# Altium schematic symbol library 2002_A_CapteurMeteoWifi.SchLib: 16 symbols
Pins are listed as number, name and electrical type; pins without a type are passive.

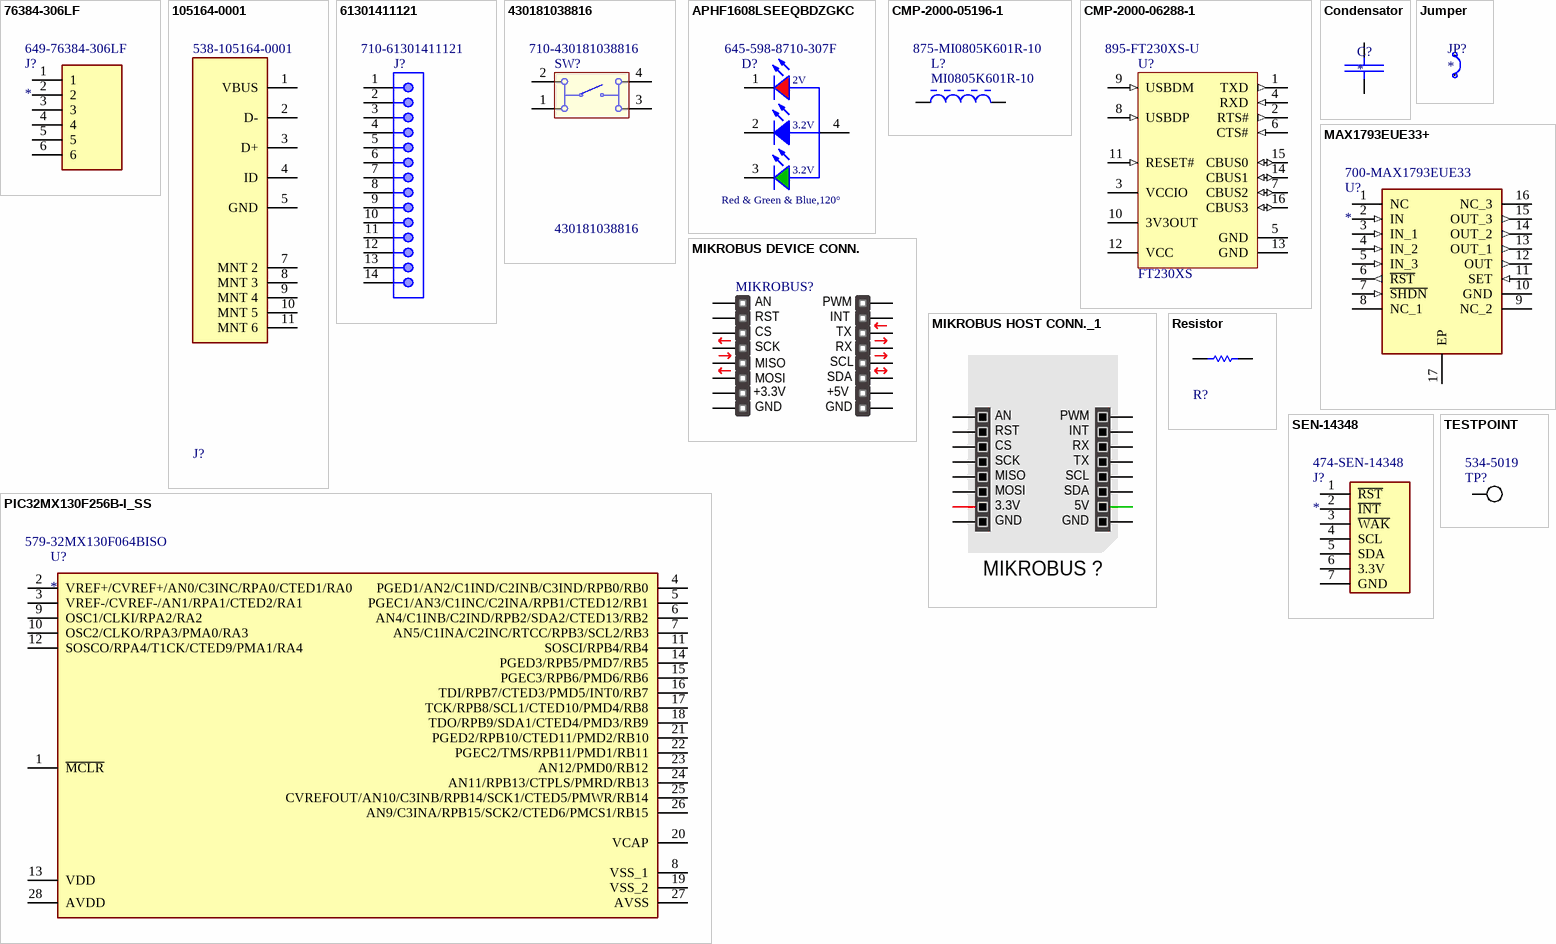
[diagram p0: symbols 76384-306LF to TESTPOINT]

## 76384-306LF
designator J?  Supplier Part Number 1: 649-76384-306LF
Connector; Manufacturer_Name: Amphenol; Manufacturer_Part_Number: 76384-306LF; Manufacturer 1: Amphenol FCI; Description: Conn Shrouded Header HDR 6 POS 2.54mm Solder ST Thru-Hole Bag; Number of Contacts: 6; Max Voltage Rating (AC): 1kV; Gender: Male; Current Rating: 3A; Insulation Resistance: 100GR; Connector Type: Male Pin; Pitch: 2.54mm; Contact Post Length: 3.4mm; Datasheet Link: https://www.mouser.co.uk/datasheet/2/18/76384-1363448.pdf; Height: 9.34mm; Supplier 1: Mouser; Manufacturer Part Number 1: 76384-306LF; Stock 1: 250; Pricing 1: 1=0.96000, 10=0.81700, 100=0.70600, 500=0.59600, 1000=0.52900, 2500=0.46300 (USD); RoHS: Yes; Mount: Through Hole; Contact Plating: Gold,GXT; Housing Material: Thermoplastic; Color: Black; Contact Material: Bronze,Copper Alloy,Copper,Nickel,Gold; Housing Color: Black; Min Operating Temperature: -40°C; Max Operating Temperature: 125°C; Termination: Solder; Number of Rows: 1; Number of Positions: 6; Package Quantity: 500; Fastening Type: Friction; Packaging: Bulk; Voltage Rating: 1kV; Orientation: Straight; Length: 14.24mm; Contact Mating Length: 0.197inch; Width: 4.7mm; Depth: 5mm; Radiation Hardening: No; Lead Free: Lead Free; REACH SVHC: No SVHC; ComponentLink1URL: https://datasheet.ciiva.com/11748/0900766b80afbf79-11748301.pdf?src-supplier=RSComponents; ComponentLink1Description: https://datasheet.ciiva.com/11748/0900766b80afbf79-11748301.pdf?src-supplier=RSComponents; ComponentLink2URL: https://datasheet.ciiva.com/16656/76384-16656614.pdf?src-supplier=Avnet+Europe; ComponentLink2Description: https://datasheet.ciiva.com/16656/76384-16656614.pdf?src-supplier=Avnet+Europe; ComponentLink3URL: https://datasheet.ciiva.com/14155/gd116700-116785-14155549.pdf?src-supplier=Distrelec; ComponentLink3Description: https://datasheet.ciiva.com/14155/gd116700-116785-14155549.pdf?src-supplier=Distrelec; ComponentLink4URL: https://datasheet.ciiva.com/711/76384-711232.pdf?src-supplier=Digi-Key; ComponentLink4Description: https://datasheet.ciiva.com/711/76384-711232.pdf?src-supplier=Digi-Key; ComponentLink5URL: https://datasheet.ciiva.com/9473/76384-9473237.pdf?src-supplier=Avnet; ComponentLink5Description: https://datasheet.ciiva.com/9473/76384-9473237.pdf?src-supplier=Avnet
footprint SHDR6W62P0X254_1X6_1424X460X934P
pins: 1, 2, 3, 4, 5, 6

## 105164-0001
designator J?  Supplier Part Number 1: 538-105164-0001  (hidden comment: *)
Connecteurs USB MICRO USB B RECEPT TOP MOUNT; Manufacturer 1: Molex; Manufacturer Part Number 1: 105164-0001; Description: MOLEX - 105164-0001 - USB Connector, Micro USB Type B, USB 2.0, Receptacle, 5 Ways, Surface Mount, Right Angle; Plating: Tin; Mating Cycles: 10000; Shielding: Shielded; Number of Circuits: 5; Current Rating: 1.8A; Gender: Receptacle; Voltage Rating (AC): 30V; USB Standard: USB 2.0; Number of Ports: 1; Pitch: 0.65mm; Supplier 1: Mouser; Stock 1: 4525; Pricing 1: 1=0.86000, 10=0.68500, 100=0.59600, 500=0.53600, 1300=0.42500, 2600=0.41300 (USD); RoHS: Yes; Mount: Surface Mount,Through Hole,Horizontal; Insulation Color: Black; Housing Material: Polymer; Contact Material: Copper Alloy; Contact Plating: Gold; Color: Black; Number of Terminals: 5; Min Operating Temperature: -35°C; Max Operating Temperature: 85°C; Connector Type: USB; Packaging: Tape and Reel; Package Quantity: 6500; Orientation: Right Angle; Number of Contacts: 5; Termination: Solder; Max Voltage Rating (AC): 30V; Length: 7.5mm; Depth: 5.15mm; Radiation Hardening: No; Halogen Free: Low Halogen; Flammability Rating: UL94 V-0; REACH SVHC: No SVHC; ComponentLink1URL: https://datasheet.ciiva.com/29660/1051640001-sd-29660108.pdf?src-supplier=Digi-Key; ComponentLink1Description: https://datasheet.ciiva.com/29660/1051640001-sd-29660108.pdf?src-supplier=Digi-Key; ComponentLink2URL: https://datasheet.ciiva.com/3899/211021051640001-io-nectors-3899697.pdf?src-supplier=Arrow+Electronics; ComponentLink2Description: https://datasheet.ciiva.com/3899/211021051640001-io-nectors-3899697.pdf?src-supplier=Arrow+Electronics
footprint Molex_105164-0001_0
pins: 1 VBUS, 2 D-, 3 D+, 4 ID, 5 GND, 7 MNT 2, 8 MNT 3, 9 MNT 4, 10 MNT 5, 11 MNT 6

## 61301411121
designator J?  Supplier Part Number 1: 710-61301411121
WR-PHD Pin Header, THT, pitch 2.54mm, Single Row, Vertical, 14pin; Part Number: 61301411121; Manufacturer 1: Wurth Electronics; Pin Number: 14; Gender: Male; Rated Current: 3A; Working Voltage: 250VAC; Withstanding Voltage: 500VAC; Contact Resistance: 20mOhm; Description: WURTH ELEKTRONIK - 61301411121 - Pin Header, Vertical, Board-to-Board, 2.54 mm, 1 Rows, 14 Contacts, Through Hole Straight; Connector Type: Male Pin; ComponentLink1Description: Manufacturer; ComponentLink1URL: http://www.we-online.de; ComponentLink2Description: Datasheet; ComponentLink2URL: https://katalog.we-online.de/em/datasheet/6130xx11121.pdf; Published Date: June 2019; Publisher: Wurth Elektronik; Pitch: 2.54mm; Operating Temperature: -40 to +105degC; Mounting Technology: THT; Packaging: Bag; Row Number: Single; Orientation: Vertical; Supplier 1: Mouser; Manufacturer Part Number 1: 61301411121; Stock 1: 984; Pricing 1: 1=0.74000, 10=0.62700, 25=0.52200, 50=0.43500, 100=0.39600, 250=0.39600 (USD); RoHS: Yes; Mount: Through Hole; Contact Plating: Gold; Contact Material: Copper; Color: Black; Number of Rows: 1; Number of Positions: 14; Termination: Solder; Number of Contacts: 14; Contact Mating Length: 0.236inch; REACH SVHC: Unknown; Lead Free: Lead Free; ComponentLink3URL: http://www.farnell.com/cad/1737268.pdf?src-supplier=Element14; ComponentLink3Description: http://www.farnell.com/cad/1737268.pdf?src-supplier=Element14; ComponentLink4URL: https://katalog.we-online.de/em/datasheet/6130xx11121.pdf?src-supplier=Digi-Key; ComponentLink4Description: https://katalog.we-online.de/em/datasheet/6130xx11121.pdf?src-supplier=Digi-Key
footprint 61301411121 (Pin Header, pitch 2.54 mm, THT, Vertical, single row, 14p)
pins: 1, 2, 3, 4, 5, 6, 7, 8, 9, 10, 11, 12, 13, 14

## 430181038816
designator SW?  Supplier Part Number 1: 710-430181038816
WS-TASV SMD Tact Switch 4.5X4.5 mm; Manufacturer: Wuerth Elektronik; Manufacturer 1: Wurth Electronics; NoPins: 04; Description: Switch Tactile Spst-no 0.05A 12V; Mechanical Life: 1000000Cycles; Actuator Material: Polymer,Liquid Crystal Polymer; Illumination Type: Non-Illuminated; Operating Force: 160gf; Throw Configuration: SPST; Switch Travel: 0.2mm; Switch Function: Off-Mom; Actuator Type: Standard; ComponentLink1Description: Manufacturer URL; ComponentLink2Description: Datasheet; ComponentLink1URL: http://www.we-online.com; PartNumber: 430181038816; PackageReference: 430181038816; ComponentLink2URL: http://katalog.we-online.de/em/datasheet/430181038816.pdf; Supplier 1: Mouser; Manufacturer Part Number 1: 430181038816; Stock 1: 3707; Pricing 1: 1=0.50000, 10=0.49400, 25=0.49400, 50=0.45800, 100=0.41600, 250=0.41600 (USD); RoHS: Yes; Mount: Surface Mount; Min Operating Temperature: -40°C; Max Operating Temperature: 85°C; Packaging: Tape and Reel; Termination: SMD/SMT; ComponentLink3URL: https://katalog.we-online.de/em/datasheet/430181038816.pdf?src-supplier=Digi-Key; ComponentLink3Description: https://katalog.we-online.de/em/datasheet/430181038816.pdf?src-supplier=Digi-Key
footprint 430181038816 (4.5*4.5mm vertical type, SMD, height 3.8mm, black actuator, 160gf, T&R)
pins: 1, 2, 3, 4

## APHF1608LSEEQBDZGKC
designator D?, comment Red & Green & Blue,120°  Supplier Part Number 1: 645-598-8710-307F
DEL standard - CMS RGB 0603 SMD; Part Number: 150066M153000; Manufacturer 1: Dialight; Manufacturer Part Number 1: 598-8710-307F; Forward Voltage: 3.3 V@Blue, 3.3 V@Green, 2 V@Red; Peak Wavelength: 468 nm@Blue, 520 nm@Green, 632 nm@Red; Dominant Wavelength: 470 nm@Blue, 525 nm@Green, 624 nm@Red; Luminous Intensity: 180 mcd@Blue, 900 mcd@Green, 285 mcd@Red; Description: LED;  0606 SMT , RED/GREEN/BLUE, ALINGAP/INGAN,  CLEAR LENS, 140 DEG VIEWING ANGLE; Color: Blue,Green,Red; Lens Color: Colorless,Clear; Reverse Voltage: 5V; Number of LEDs: 3; Lens Style: Flat,Diffused,Colorless,Rectangular,Clear; Element Configuration: Common Anode; Lens Transparency: Clear; Test Current: 20mA; Wavelength: 635nm; Lens Size: 0.9mm; ComponentLink1Description: Manufacturer; ComponentLink1URL: http://www.we-online.de; ComponentLink2Description: Datasheet; ComponentLink2URL: http://katalog.we-online.de/led/datasheet/150066M153000.pdf; Published Date: May 2018; Publisher: Wurth Elektronik; Size: 0606; Viewing Angle: 120°; Operating Temperature: -40 to 85 degC; Emitting Color: Red & Green & Blue; Mounting Technology: SMT; Supplier 1: Mouser; Stock 1: 12149; Pricing 1: 1=2.17000, 10=1.43000, 100=1.12000, 500=0.99200, 1000=0.99200, 4000=0.99200 (USD); RoHS: Yes; Mount: Surface Mount; Case/Package: 0606; Number of Pins: 4; Case Code (Imperial): 0606; Case Code (Metric): 1616; Min Operating Temperature: -40°C; Max Operating Temperature: 100°C; Packaging: Tape and Reel; Number of Elements: 3; Forward Current: 20mA; Package Quantity: 3000; Length: 1.6mm; Height: 0.7mm; Depth: 1.6mm; Width: 1.6mm; Radiation Hardening: No; REACH SVHC: No SVHC; Lead Free: Lead Free; ComponentLink3URL: https://datasheet.ciiva.com/2112/smt-selector-guide-2112585.pdf?src-supplier=Digi-Key; ComponentLink3Description: https://datasheet.ciiva.com/2112/smt-selector-guide-2112585.pdf?src-supplier=Digi-Key; ComponentLink4URL: https://datasheet.ciiva.com/2112/smt-selector-guide-2112587.pdf?src-supplier=Digi-Key; ComponentLink4Description: https://datasheet.ciiva.com/2112/smt-selector-guide-2112587.pdf?src-supplier=Digi-Key; ComponentLink5URL: https://datasheet.ciiva.com/30261/mdei5980606tri-a-w-30261836.pdf?src-supplier=Onlinecomponents.com; ComponentLink5Description: https://datasheet.ciiva.com/30261/mdei5980606tri-a-w-30261836.pdf?src-supplier=Onlinecomponents.com; ComponentLink6URL: https://datasheet.ciiva.com/15965/mdei5980606tri-a-w-15965790.pdf?src-supplier=Onlinecomponents.com; ComponentLink6Description: https://datasheet.ciiva.com/15965/mdei5980606tri-a-w-15965790.pdf?src-supplier=Onlinecomponents.com; ComponentLink7URL: https://datasheet.ciiva.com/16216/smt-selector-guide-16216713.pdf?src-supplier=Future+Electronics; ComponentLink7Description: https://datasheet.ciiva.com/16216/smt-selector-guide-16216713.pdf?src-supplier=Future+Electronics; ComponentLink8URL: https://datasheet.ciiva.com/2112/smt-selector-guide-2112586.pdf?src-supplier=Digi-Key; ComponentLink8Description: https://datasheet.ciiva.com/2112/smt-selector-guide-2112586.pdf?src-supplier=Digi-Key; ComponentLink9URL: https://datasheet.ciiva.com/4688/smt-selector-guide-267443-4688847.pdf?src-supplier=Mouser; ComponentLink9Description: https://datasheet.ciiva.com/4688/smt-selector-guide-267443-4688847.pdf?src-supplier=Mouser
footprint 150066M153000
pins: 1 K, 2 K, 3 K, 4 A
text: 2V; 3.2V

## CMP-2000-05196-1
designator L?, comment MI0805K601R-10  Supplier Part Number 1: 875-MI0805K601R-10
Chip Bead for Power Filtering, 1500 mA, 600 Ohm, -40 to 125 degC, 0805 (2012 Metric), RoHS, Tape and Reel; Manufacturer: Laird; Filter Type: PowerLine; Current Rating (Max): 1.5A; Catalog Drawings: (HI,HZ,LI,MI)0805Series_1.10mmMax.Height; Impedance @ Frequency: 600Ohm@100MHz; Number of Lines: 1; DC Resistance (DCR) (Max): 100mOhm; Other Names: 240-2390-1; Kits: 240-2227-ND-KITEMIFERRITEBEADCHIPSMD; Online Catalog: MISeries; Description: LAIRD - MI0805K601R-10 - Ferrite Bead, 0805 [2012 Metric], 600 ohm, 1.5 A, MI Series, 0.1 ohm; Core Material: Ferrite; DC Resistance (DCR): 100mR; Frequency: 100MHz; Impedance: 600R; Standard Package: 1; Datasheet Version: Rev. A, 01/2004; Height (Max): 0.043"(1.10mm); Category: Filters; Operating Temperature: -40degC~125degC; Package Description: 2-Pin Surface Mount Device, Body 2 x 1.25 mm; Package / Case: 0805(2012Metric); Package Reference: MI0805K601R-10-2; Packaging: CutTape(CT); Ratings: -; Mounting Type: SurfaceMount; Datasheet URL: https://datasheet.ciiva.com/3082/mi0805k601r-10-a-vp-3082219.pdf; Size / Dimension: 0.079"Lx0.049"W(2.00mmx1.25mm); Family: FerriteBeadsandChips; Manufacturer URL: https://www.lairdtech.com; Series: MI; Supplier: Digikey; Supplier Ref.: 240-2390-1-ND; Supplier min. qty: 1; Supplier unit price: 0.11; Supplier 1: Mouser; Manufacturer 1: Laird; Manufacturer Part Number 1: MI0805K601R-10; Stock 1: 59209; Pricing 1: 1=0.10000, 10=0.08300, 50=0.07700, 100=0.07400, 250=0.06200, 500=0.05800 (USD); RoHS: Yes; Mount: Surface Mount; Case/Package: 0805; Weight: 0.00392oz; Case Code (Metric): 2012; Case Code (Imperial): 0805; Contact Plating: Tin,Matte; Material: Ferrite; Min Operating Temperature: -40°C; Max Operating Temperature: 125°C; Package Quantity: 1; Max Current Rating: 1.5A; Max DC Current: 1.5A; Current Rating: 1.5A; Termination: SMD/SMT; Test Frequency: 100MHz; Length: 2mm; Height: 0.043inch; Width: 0.049inch; Depth: 1.45mm; Lead Free: Lead Free; REACH SVHC: Unknown; ComponentLink1URL: https://datasheet.ciiva.com/22650/1685918-22650417.pdf?src-supplier=Element14; ComponentLink1Description: https://datasheet.ciiva.com/22650/1685918-22650417.pdf?src-supplier=Element14; ComponentLink2URL: https://datasheet.ciiva.com/1013/mi0805k601r-10-b-1013299.pdf?src-supplier=Digi-Key; ComponentLink2Description: https://datasheet.ciiva.com/1013/mi0805k601r-10-b-1013299.pdf?src-supplier=Digi-Key; ComponentLink3URL: https://datasheet.ciiva.com/3082/mi0805k601r-10-a-vp-3082219.pdf?src-supplier=Avnet; ComponentLink3Description: https://datasheet.ciiva.com/3082/mi0805k601r-10-a-vp-3082219.pdf?src-supplier=Avnet
footprint LIRD-MI0805K601R-10-2_V (Chip Bead, 2-Leads, Body 2.2 x1.45 mm)
pins: 1, 2

## CMP-2000-06288-1
designator U?, comment FT230XS  Supplier Part Number 1: 895-FT230XS-U
USB to Basic UART IC, 2.97 to 5.5 V, -40 to 85 degC, 16-Pin SSOP, RoHS; Manufacturer: FTDI; Manufacturer Part Number 1: FT230XS-U; Data Rate: 3Mbaud; USB Standard: USB2.0; USB Type: Transceiver; No. of Pins: 16Pins; Supply Voltage Max: 5.5V; SVHC: NoSVHC(17-Dec-2015); Supply Voltage Min: 2.97V; Description: USB Interface IC USB to Basic Serial UART IC SSOP-16; Operating Supply Voltage: 5V; Operating Supply Current: 8mA; MSL: MSL3-168hours; Datasheet Version: Rev. 1.4, 05/2016; Interface Case Style: SSOP; Datasheet URL: http://www.ftdichip.com/Support/Documents/DataSheets/ICs/DS_FT230X.pdf; Packaging: CutTape; Package Description: 16-Pin Shrink Small Outline Package Integrated Circuit, Body 4.9 x 3.9 mm, Pitch 0.635 mm; Operating Temperature Min: -40°C; Mounting Technology: SurfaceMount; Package Reference: SSOP-16; Manufacturer URL: http://www.ftdichip.com/; Product Range: -; Operating Temperature Max: 85°C; No. of Ports: -; Supplier: Digikey; Supplier Ref.: 768-1135-1-ND; Supplier min. qty: 1; Supplier unit price: 2.00; Supplier 1: Mouser; Manufacturer 1: FTDI; Stock 1: 3629; Pricing 1: 1=2.04000, 25=1.97000, 100=1.90000, 250=1.71000, 500=1.54000, 1000=1.46000 (USD); RoHS: Yes; Case/Package: SSOP; Number of Pins: 16; Min Operating Temperature: -40°C; Max Operating Temperature: 85°C; Package Quantity: 100; Interface: UART; Lead Free: Lead Free; ComponentLink1URL: https://datasheet.ciiva.com/6630/ds-ft230x-6630901.pdf?src-supplier=Digi-Key; ComponentLink1Description: https://datasheet.ciiva.com/6630/ds-ft230x-6630901.pdf?src-supplier=Digi-Key; ComponentLink2URL: https://datasheet.ciiva.com/16339/ds-ft230x-16339482.pdf?src-supplier=Future+Electronics; ComponentLink2Description: https://datasheet.ciiva.com/16339/ds-ft230x-16339482.pdf?src-supplier=Future+Electronics
footprint FTDI-SSOP-16_L (SOP, 16-Leads, Body 5x4mm, Pitch 0.635mm, IPC High Density)
footprint FTDI-SSOP-16_M (SOP, 16-Leads, Body 5x4mm, Pitch 0.635mm, IPC Low Density)
footprint FTDI-SSOP-16_N (SOP, 16-Leads, Body 5x4mm, Pitch 0.635mm, IPC Medium Density)
pins: 1 TXD (out) "Transmit Asynchronous Data Output.", 2 RTS# (out) "Request to Send Control Output / Handshake Signal.", 3 VCCIO (power) "1V8 - 3V3 supply for the IO cells", 4 RXD (in) "Receiving Asynchronous Data Input.", 5 GND (power) "0V Ground input.", 6 CTS# (in) "Clear To Send Control Input / Handshake Signal.", 7 CBUS2 (io) "Configurable CBUS I/O Pin.", 8 USBDP (in) "USB Data Signal Plus.", 9 USBDM (in) "USB Data Signal Minus.", 10 3V3OUT (power) "3V3 output at 50mA. May be used to power VCCIO.", 11 RESET# (in) "Reset input (active low).", 12 VCC (power) "5 V (or 3V3) supply to IC", 13 GND (power) "0V Ground input.", 14 CBUS1 (io) "Configurable CBUS I/O Pin.", 15 CBUS0 (io) "Configurable CBUS I/O Pin.", 16 CBUS3 (io) "Configurable CBUS I/O Pin."

## Condensator
designator C?
0805 Condensator; Value: *
footprint LIRD-MI0805K601R-10-2_V (Chip Bead, 2-Leads, Body 2.2 x1.45 mm)
pins: 1, 2

## Jumper
designator JP?
footprint connector_2PIN
pins: 1, 2

## MAX1793EUE33+
designator U?  Supplier Part Number 1: 700-MAX1793EUE33
Integrated Circuit; Manufacturer_Name: Maxim Integrated; Manufacturer_Part_Number: MAX1793EUE33+; Manufacturer 1: Maxim; Description: PMIC - LDO voltage regulator Maxim Integrated MAX1793EUE33+ Positive, fixed or adjustable TSSOP 16 EP; Max Input Voltage: 5.5V; Number of Outputs: 1; Min Input Voltage: 2.5V; Polarity: Positive; Output Type: Fixed,Adjustable; Max Power Dissipation: 1.5W; Accuracy: 3%; Output Voltage: 3.3V; Output Current: 1A; Input Bias Current: 225uA; Reference Voltage: 1.25V; Dropout Voltage: 350mV; Datasheet Link: http://datasheets.maximintegrated.com/en/ds/MAX1793.pdf; Height: 1.1mm; Supplier 1: Mouser; Manufacturer Part Number 1: MAX1793EUE33+; Stock 1: 224; Pricing 1: 1=3.79000, 10=3.07000, 25=2.91000, 50=2.82000, 100=2.38000, 250=1.96000 (USD); RoHS: Yes; Mount: Surface Mount; Case/Package: TSSOP; Number of Pins: 16; Contact Plating: Tin,Matte; Min Operating Temperature: -40°C; Max Operating Temperature: 85°C; Packaging: Rail/Tube; Package Quantity: 96; Max Output Current: 1A; Number of Regulators: 1; Quiescent Current: 225uA; Nominal Output Voltage: 3.3V; Power Rating: 1.5W; Max Output Voltage: 3.3V; Max Supply Voltage: 5.5V; Min Supply Voltage: 2.5V; Termination: SMD/SMT; Length: 5.1mm; Width: 6.5mm; Radiation Hardening: No; Lead Free: Lead Free; REACH SVHC: Unknown; ComponentLink1URL: https://datasheet.ciiva.com/2051/max1793-2051488.pdf?src-supplier=Digi-Key; ComponentLink1Description: https://datasheet.ciiva.com/2051/max1793-2051488.pdf?src-supplier=Digi-Key; ComponentLink2URL: https://datasheet.ciiva.com/26903/max1793eue33-26903273.pdf?src-supplier=IIIC; ComponentLink2Description: https://datasheet.ciiva.com/26903/max1793eue33-26903273.pdf?src-supplier=IIIC; ComponentLink3URL: https://datasheet.ciiva.com/4887/max1793-45937-4887771.pdf?src-supplier=Mouser; ComponentLink3Description: https://datasheet.ciiva.com/4887/max1793-45937-4887771.pdf?src-supplier=Mouser; ComponentLink4URL: https://datasheet.ciiva.com/14282/max1793-14282095.pdf?src-supplier=Avnet; ComponentLink4Description: https://datasheet.ciiva.com/14282/max1793-14282095.pdf?src-supplier=Avnet
footprint SOP65P638X110-17N
pins: 1 NC, 2 IN (in), 3 IN_1 (in), 4 IN_2 (in), 5 IN_3 (in), 6 ~{RST} (out), 7 ~{SHDN} (in), 8 NC_1, 9 NC_2, 10 GND (power), 11 SET (in), 12 OUT (out), 13 OUT_1 (out), 14 OUT_2 (out), 15 OUT_3 (out), 16 NC_3, 17 EP

## MIKROBUS DEVICE CONN.
designator MIKROBUS?  (value not drawn)
mikroBUS Target Header
footprint MIKRO_BUS_LARGE
footprint MIKRO_BUS_MINI
footprint MIKRO_BUS_MIDI
pins: 1 AN, 2 RST, 3 CS, 4 SCK, 5 MISO, 6 MOSI, 7 3.3V, 8 GND, 9 GND, 10 5V, 11 SDA, 12 SCL, 13 TX, 14 RX, 15 INT, 16 PWM
2 alternate drawings of the same symbol
text: +3.3V; +5V

## MIKROBUS HOST CONN._1
designator MIKROBUS ?, comment MIKROBUS HOST CONN.  (value not drawn)
mikroBUS Host Socket; SMD: No
footprint MIKROBUS HOST CONN.
pins: 1 AN, 2 RST, 3 CS, 4 SCK, 5 MISO, 6 MOSI, 7 3.3V, 8 GND, 9 GND, 10 5V, 11 SDA, 12 SCL, 13 TX, 14 RX, 15 INT, 16 PWM

## PIC32MX130F256B-I_SS
designator U?  Supplier Part Number 1: 579-32MX130F064BISO
Integrated Circuit; Manufacturer_Name: Microchip; Manufacturer_Part_Number: PIC32MX130F256B-I/SS; Manufacturer Part Number 1: PIC32MX130F064B-I/SO; Description: 32 Bit MCU,  256KB Flash,  16KB RAM,  40 MHz,  28 Pin,  3 Comp,  CTMU,  RTCC; RAM Size: 32KB; Interface: I2C,SPI,IrDA,UART,USART,LIN,I2S; Number of Timers/Counters: 5; Frequency: 40MHz; Max Supply Voltage: 3.6V; Min Supply Voltage: 2.3V; Data Bus Width: 32b; Number of Programmable I/O: 21; Watchdog Timer: Yes; Memory Type: FLASH; Memory Size: 64KB; Number of UART Channels: 2; Core Architecture: PIC; Peripherals: I2C; Datasheet Link: https://componentsearchengine.com/Datasheets/1/PIC32MX130F256B-I_SS.pdf; Height: 2mm; Mouser Part Number: 579-MX130F256BISS; Mouser Price/Stock: https://www.mouser.com/Search/Refine.aspx?Keyword=579-MX130F256BISS; RS Part Number: 8806720P; RS Price/Stock: http://uk.rs-online.com/web/p/products/8806720P; Supplier 1: Mouser; Manufacturer 1: Microchip; Stock 1: 118; Pricing 1: 1=2.52000, 10=2.52000, 25=2.31000, 100=2.10000, 250=2.10000, 500=2.10000 (USD); RoHS: Yes; Case/Package: SOIC; Number of Pins: 28; Min Operating Temperature: -40°C; Max Operating Temperature: 85°C; Packaging: Rail/Tube; Package Quantity: 27; Max Frequency: 40MHz; Radiation Hardening: No; Lead Free: Lead Free; ComponentLink1URL: https://datasheet.ciiva.com/1491/61168e-1491540.pdf?src-supplier=Digi-Key; ComponentLink1Description: https://datasheet.ciiva.com/1491/61168e-1491540.pdf?src-supplier=Digi-Key; ComponentLink2URL: https://datasheet.ciiva.com/16476/61168e-16476908.pdf?src-supplier=Future+Electronics; ComponentLink2Description: https://datasheet.ciiva.com/16476/61168e-16476908.pdf?src-supplier=Future+Electronics
footprint SOP65P780X200-28N
pins: 1 ~{MCLR}, 2 VREF+/CVREF+/AN0/C3INC/RPA0/CTED1/RA0, 3 VREF-/CVREF-/AN1/RPA1/CTED2/RA1, 4 PGED1/AN2/C1IND/C2INB/C3IND/RPB0/RB0, 5 PGEC1/AN3/C1INC/C2INA/RPB1/CTED12/RB1, 6 AN4/C1INB/C2IND/RPB2/SDA2/CTED13/RB2, 7 AN5/C1INA/C2INC/RTCC/RPB3/SCL2/RB3, 8 VSS_1, 9 OSC1/CLKI/RPA2/RA2, 10 OSC2/CLKO/RPA3/PMA0/RA3, 11 SOSCI/RPB4/RB4, 12 SOSCO/RPA4/T1CK/CTED9/PMA1/RA4, 13 VDD, 14 PGED3/RPB5/PMD7/RB5, 15 PGEC3/RPB6/PMD6/RB6, 16 TDI/RPB7/CTED3/PMD5/INT0/RB7, 17 TCK/RPB8/SCL1/CTED10/PMD4/RB8, 18 TDO/RPB9/SDA1/CTED4/PMD3/RB9, 19 VSS_2, 20 VCAP, 21 PGED2/RPB10/CTED11/PMD2/RB10, 22 PGEC2/TMS/RPB11/PMD1/RB11, 23 AN12/PMD0/RB12, 24 AN11/RPB13/CTPLS/PMRD/RB13, 25 CVREFOUT/AN10/C3INB/RPB14/SCK1/CTED5/PMWR/RB14, 26 AN9/C3INA/RPB15/SCK2/CTED6/PMCS1/RB15, 27 AVSS, 28 AVDD

## Resistor
designator R?  (value not drawn)
0805 Resistor; Value: *
footprint LIRD-MI0805K601R-10-2_V (Chip Bead, 2-Leads, Body 2.2 x1.45 mm)
pins: 1, 2

## SEN-14348
designator J?  Supplier Part Number 1: 474-SEN-14348
CCS811 + BME280 kit; Manufacturer_Name: Amphenol; Manufacturer_Part_Number: 68604-804HLF; Manufacturer 1: SparkFun; Manufacturer Part Number 1: SEN-14348; Description: CCS811/BME280 Atmospheric Quality Sensor Breakout; Datasheet Link: https://componentsearchengine.com/Datasheets/1/68604-804HLF.pdf; Height: 12.39mm; Mouser2 Part Number: 649-68604-804HLF; Mouser2 Price/Stock: https://www.mouser.com/Search/Refine.aspx?Keyword=649-68604-804HLF; Supplier 1: Mouser; Stock 1: 24; Pricing 1: 1=35.95000, 5=35.95000 (USD); RoHS: No; ComponentLink1URL: https://media.digikey.com/pdf/Data%20Sheets/Sparkfun%20PDFs/SEN-14348_Web.pdf?src-supplier=Digi-Key; ComponentLink1Description: https://media.digikey.com/pdf/Data%20Sheets/Sparkfun%20PDFs/SEN-14348_Web.pdf?src-supplier=Digi-Key
footprint SEN-14193
pins: 1 ~{RST}, 2 ~{INT}, 3 ~{WAK}, 4 SCL, 5 SDA, 6 3.3V, 7 GND

## TESTPOINT
designator TP?, comment Supplier Part Number 1: 534-5019  (hidden comment: 5019)
Test point smd; Manufacturer 1: Keystone Electronics; Description: Phosphor Bronze Contact Miniature Silver Plated Surface Mount Test Points; Supplier 1: Mouser; Manufacturer Part Number 1: 5019; Stock 1: 148432; Pricing 1: 1=0.35000, 10=0.33100, 25=0.24100, 100=0.23100, 250=0.20800, 500=0.19800 (USD); RoHS: Yes; Mount: Surface Mount,PCB; Number of Pins: 1; Contact Plating: Silver; Contact Material: Bronze; Material: Bronze; Packaging: Tape and Reel; Package Quantity: 1; Termination: SMD/SMT; Height: 0.09inch; REACH SVHC: No SVHC; Lead Free: Lead Free; ComponentLink1URL: https://datasheet.ciiva.com/14848/m60-2p61-14848437.pdf?src-supplier=Digi-Key; ComponentLink1Description: https://datasheet.ciiva.com/14848/m60-2p61-14848437.pdf?src-supplier=Digi-Key; ComponentLink2URL: https://datasheet.ciiva.com/14848/m60-2p61-14848438.pdf?src-supplier=Digi-Key; ComponentLink2Description: https://datasheet.ciiva.com/14848/m60-2p61-14848438.pdf?src-supplier=Digi-Key; ComponentLink3URL: https://datasheet.ciiva.com/14848/m60-2p61-14848439.pdf?src-supplier=Digi-Key; ComponentLink3Description: https://datasheet.ciiva.com/14848/m60-2p61-14848439.pdf?src-supplier=Digi-Key; ComponentLink4URL: https://datasheet.ciiva.com/16885/70182998-16885945.pdf?src-supplier=Allied+Electronics; ComponentLink4Description: https://datasheet.ciiva.com/16885/70182998-16885945.pdf?src-supplier=Allied+Electronics; ComponentLink5URL: https://datasheet.ciiva.com/16318/m60-2p61-16318395.pdf?src-supplier=Future+Electronics; ComponentLink5Description: https://datasheet.ciiva.com/16318/m60-2p61-16318395.pdf?src-supplier=Future+Electronics
footprint TESTPOINT_SMD
pins: 1